# EAGLE library part FE06-I2C-RTC (library expansion_headers)
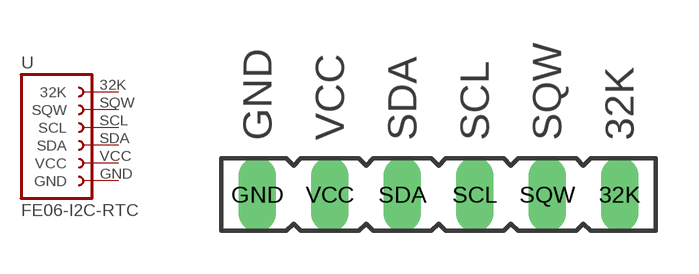
[diagram p0: symbol with the pads of FE06-I2C-RTC; footprint FE06-I2C-RTC]

Designator prefix -

## FE06-I2C-RTC  [FE06-I2C-RTC]
32K  32K  pas
GND  GND  pas
SCL  SCL  pas
SDA  SDA  pas
SQW  SQW  pas
VCC  VCC  pas

## Footprint FE06-I2C-RTC (pad centres in mm)
FEMALE HEADER
drill 0.813 long: 32K 6.35,0; GND -6.35,0; SCL 1.27,0; SDA -1.27,0; SQW 3.81,0; VCC -3.81,0